# Altium footprint library PCB - LEADED - DPAK - IXYS TO-268 P-CH GDS.PcbLib: 1 footprints
Each footprint in its own frame and in the unit in brackets; x right, y up, seen from the top. Pads: shape width x height; smd on the part's side, far side on the other; paste and mask are expansions set on the pad; w line width, h text height; cw(c..) or ccw(c..) is an arc to the next point about the centre after c.
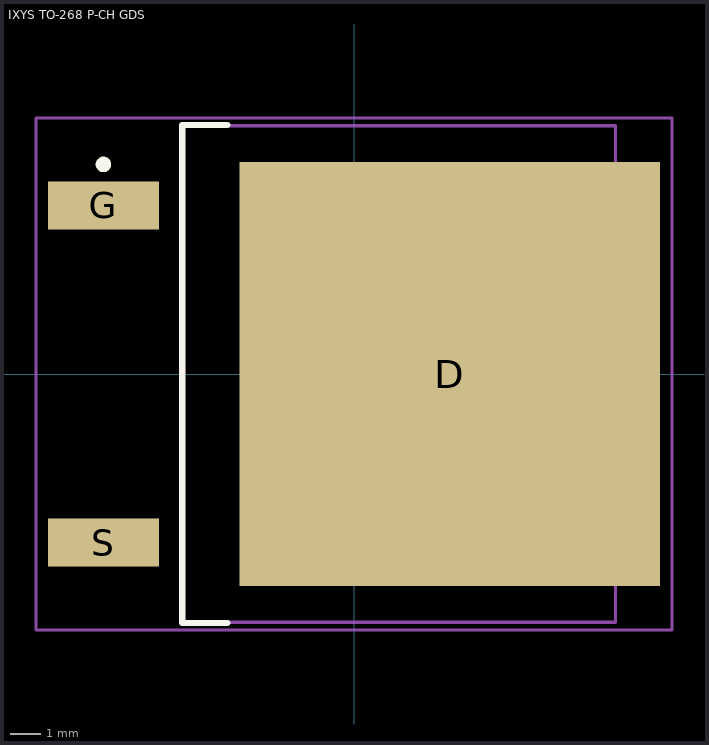
[diagram p0: the footprint, top view; thin cyan lines are the x and y axes]

## IXYS TO-268 P-CH GDS [mm]
height 5.1
pads (3):
  rect 13.6x13.7 smd: D(3.1,0)
  rect 3.6x1.55 smd: G(-8.1,5.45) S(-8.1,-5.45)
Top Overlay:
  circle w0.25: c-8.1,6.775 r0.125
  lines w0.2: -4.1,-8.05 -5.55,-8.05 -5.55,8.05 -4.1,8.05
Top Assembly:
  lines w0.1: -5.55,-8.025 -5.55,8.025 8.45,8.025 8.45,-8.025 -5.55,-8.025
Top Courtyard (Mech15):
  lines w0.1: -0.5,0 0.5,0 ; 0,-0.5 0,0.5 ; -10.287,-8.275 -10.287,8.275 10.287,8.275 10.287,-8.275 -10.287,-8.275
3D body "IXYS TO-268 P-CH GDS.step": height 5.1, standoff 0, extent -9.289,-8.025 9.611,8.025